# EAGLE library part SN74LVC1G10 (library ICs)
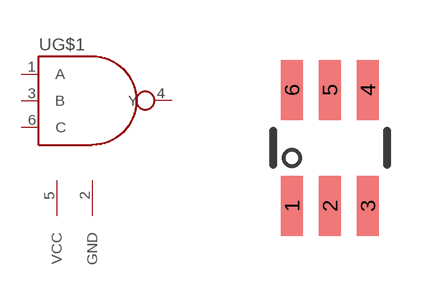
[diagram p26: symbol with the pads of SOT23-6; footprint SOT23-6]

Designator prefix U; gates G$1=GATE_NAND_3 G$2=LOGIC_PWR

## SN74LVC1G10  [SOT23-6]
1  G$1:A
2  G$2:GND
3  G$1:B
4  G$1:Y  out
5  G$2:VCC
6  G$1:C

## Footprint SOT23-6 (pad centres in mm)
smd 0.55 x 1.5: 1 -0.95,-1.45; 2 0,-1.45; 3 0.95,-1.45; 4 0.95,1.45; 5 0,1.45; 6 -0.95,1.45